# EAGLE library part FLAT-FLEX-CONNECTOR-VERT-06POS (library FlashPCB_Connectors)
FLAT-FLEX-CONNECTOR-VERT-06POS - Flat Flex Connector 6 position Vertical Technical Specifications: Number of Positions: 6 Contact: One Side Mount: Vertical
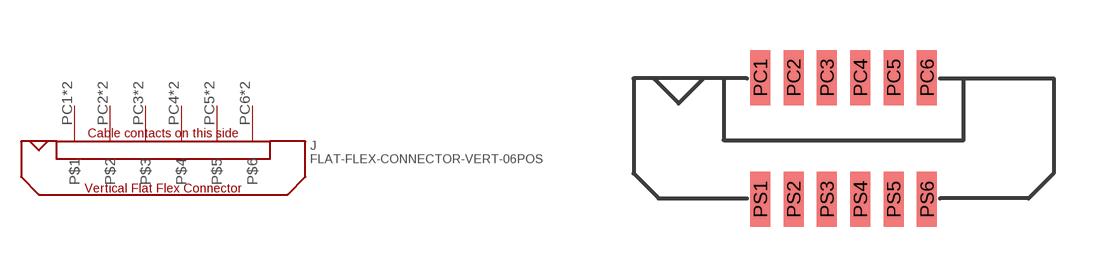
[diagram p120: symbol with the pads of FLAT-FLEX-CONNECTOR-MOLEX-52610-VERT-06POS; footprint FLAT-FLEX-CONNECTOR-MOLEX-52610-VERT-06POS]

Designator prefix J

## FLAT-FLEX-CONNECTOR-VERT-06POS1MM-PITCH  [FLAT-FLEX-CONNECTOR-MOLEX-52610-VERT-06POS]
PC1  P$1
PC2  P$2
PC3  P$3
PC4  P$4
PC5  P$5
PC6  P$6
PS1  P$1
PS2  P$2
PS3  P$3
PS4  P$4
PS5  P$5
PS6  P$6

## Footprint FLAT-FLEX-CONNECTOR-MOLEX-52610-VERT-06POS (pad centres in mm)
smd 0.6 x 1.65: PC1 -2.5,1.825; PC2 -1.5,1.825; PC3 -0.5,1.825; PC4 0.5,1.825; PC5 1.5,1.825; PC6 2.5,1.825; PS1 -2.5,-1.825; PS2 -1.5,-1.825; PS3 -0.5,-1.825; PS4 0.5,-1.825; PS5 1.5,-1.825; PS6 2.5,-1.825